# Altium schematic symbol library HT3.96.SchLib: 14 symbols
Pins are listed as number, name and electrical type; pins without a type are passive.

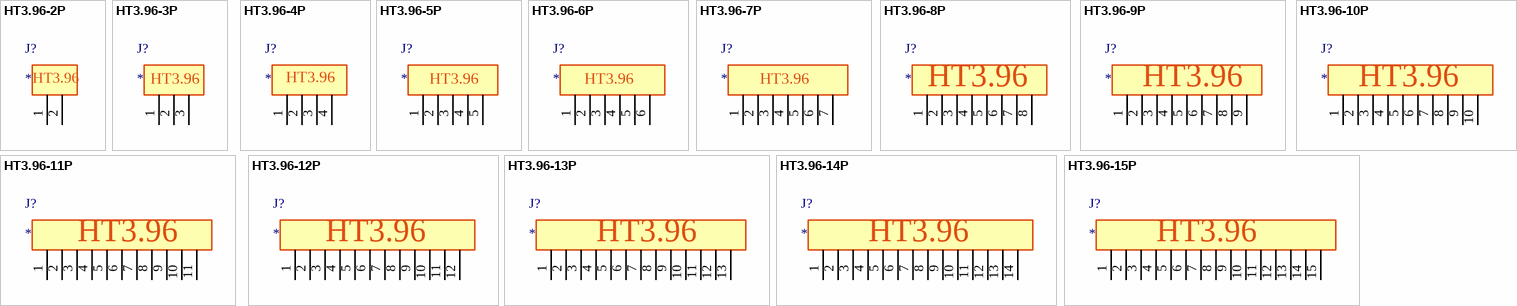
[diagram p0: symbols HT3.96-2P to HT3.96-15P]

## HT3.96-2P
designator J?
pins: 1, 2
text: HT3.96

## HT3.96-3P
designator J?
pins: 1, 2, 3
text: HT3.96

## HT3.96-4P
designator J?
pins: 1, 2, 3, 4
text: HT3.96

## HT3.96-5P
designator J?
pins: 1, 2, 3, 4, 5
text: HT3.96

## HT3.96-6P
designator J?
pins: 1, 2, 3, 4, 5, 6
text: HT3.96

## HT3.96-7P
designator J?
pins: 1, 2, 3, 4, 5, 6, 7
text: HT3.96

## HT3.96-8P
designator J?
pins: 1, 2, 3, 4, 5, 6, 7, 8
text: HT3.96

## HT3.96-9P
designator J?
pins: 1, 2, 3, 4, 5, 6, 7, 8, 9
text: HT3.96

## HT3.96-10P
designator J?
pins: 1, 2, 3, 4, 5, 6, 7, 8, 9, 10
text: HT3.96

## HT3.96-11P
designator J?
pins: 1, 2, 3, 4, 5, 6, 7, 8, 9, 10, 11
text: HT3.96

## HT3.96-12P
designator J?
pins: 1, 2, 3, 4, 5, 6, 7, 8, 9, 10, 11, 12
text: HT3.96

## HT3.96-13P
designator J?
pins: 1, 2, 3, 4, 5, 6, 7, 8, 9, 10, 11, 12, 13
text: HT3.96

## HT3.96-14P
designator J?
pins: 1, 2, 3, 4, 5, 6, 7, 8, 9, 10, 11, 12, 13, 14
text: HT3.96

## HT3.96-15P
designator J?
pins: 1, 2, 3, 4, 5, 6, 7, 8, 9, 10, 11, 12, 13, 14, 15
text: HT3.96